# EAGLE library part CON-ST60-24P (library zz-m-pad-2.1)
Hirose's ST60-24P ST-Series 24pol Overview: Developed as external input/output connectors for the portable and mobile devices used in consumer markets. As such, the connectors incorporate features required to assure reliable electrical and mechanical performance under extreme and unpredictable conditions. Features 1. Strong locking mechanism To assure continuous reliability of the connection in an unpredictable consumer environment, mated connectors will withstand pull force of 49N max. applied in any direction. 2. Prevention against reversed or angle insertion Multiple polarization keys will not allow incorrect insertion of the mating plug. In addition, contacts will not be damaged when the user attempts to insert only the corner of the mating plug. 3. Small size and low profile Contact pitch of 0.5 mm and utilization of state-of-the-art manufacturing technologies has produced receptacle height of 3 mm above the board and maximum thickness of the plug of only 7 mm. 4. EMI protection Built-in ground continuity features and EMI shielding assure interference free performance. 5. Wide variety of contact positions and mounting styles Standard, reverse, vertical and cradle mountings, as well as utilization of variety of cables and conductors assure application of this connector in diversified applications. Applications: Digital Still Cameras, Personal Digital Assistance, Notebook computers, Cellular phones, Portable readers, Mobile recorders and any mobile or portable device requiring high reliability small size input/output connection. Please send any comments to: messi@users.sourceforge.net
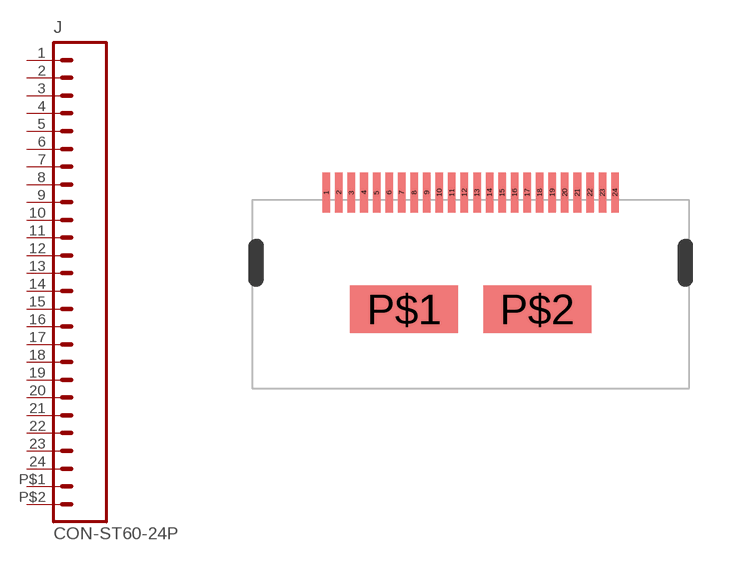
[diagram p120: symbol with the pads of ST60-24P; footprint ST60-24P]

Designator prefix J

## CON-ST60-24P  [ST60-24P]
1  1  pas
2  2  pas
3  3  pas
4  4  pas
5  5  pas
6  6  pas
7  7  pas
8  8  pas
9  9  pas
10  10  pas
11  11  pas
12  12  pas
13  13  pas
14  14  pas
15  15  pas
16  16  pas
17  17  pas
18  18  pas
19  19  pas
20  20  pas
21  21  pas
22  22  pas
23  23  pas
24  24  pas
P$1  25  pas
P$2  26  pas

## Footprint ST60-24P (pad centres in mm)
Hirose's ST60-24P ST-Series 24pol Overview: Developed as external input/output connectors for the portable and mobile devices used in consumer markets. As such, the connectors incorporate features required to assure reliable electrical and mechanical performance under extreme and unpredictable conditions. Features 1. Strong locking mechanism To assure continuous reliability of the connection in an unpredictable consumer environment, mated connectors will withstand pull force of 49N max. applied in any direction. 2. Prevention against reversed or angle insertion Multiple polarization keys will not allow incorrect insertion of the mating plug. In addition, contacts will not be damaged when the user attempts to insert only the corner of the mating plug. 3. Small size and low profile Contact pitch of 0.5 mm and utilization of state-of-the-art manufacturing technologies has produced receptacle height of 3 mm above the board and maximum thickness of the plug of only 7 mm. 4. EMI protection Built-in ground continuity features and EMI shielding assure interference free performance. 5. Wide variety of contact positions and mounting styles Standard, reverse, vertical and cradle mountings, as well as utilization of variety of cables and conductors assure application of this connector in diversified applications. Applications: Digital Still Cameras, Personal Digital Assistance, Notebook computers, Cellular phones, Portable readers, Mobile recorders and any mobile or portable device requiring high reliability small size input/output connection. Please send any comments to: messi@users.sourceforge.net
smd 0.3 x 1.6: 1 -5.75,2.8; 2 -5.25,2.8; 3 -4.75,2.8; 4 -4.25,2.8; 5 -3.75,2.8; 6 -3.25,2.8; 7 -2.75,2.8; 8 -2.25,2.8; 9 -1.75,2.8; 10 -1.25,2.8; 11 -0.75,2.8; 12 -0.25,2.8; 13 0.25,2.8; 14 0.75,2.8; 15 1.25,2.8; 16 1.75,2.8; 17 2.25,2.8; 18 2.75,2.8; 19 3.25,2.8; 20 3.75,2.8; 21 4.25,2.8; 22 4.75,2.8; 23 5.25,2.8; 24 5.75,2.8
smd 4.3 x 1.9: P$1 -2.65,-1.85; P$2 2.65,-1.85